# Altium integrated library ESDA6V1W5.IntLib: 1 symbol
Pins are listed as number, name and electrical type; pins without a type are passive.

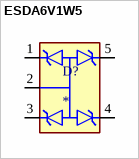
[diagram p0: symbol ESDA6V1W5]

## ESDA6V1W5
designator D?
- Clamp - Ipp Tvs Diode Surface Mount SOT-323-5; MF: STMicroelectronics; MP: ESDA6V1W5; SnapEDA_Link: https://www.snapeda.com/parts/ESDA6V1W5/STMicroelectronics/view-part/?ref=snap; Availability: In Stock; Price: None; Value: *; Check_prices: https://www.snapeda.com/parts/ESDA6V1W5/STMicroelectronics/view-part/?ref=eda; Purchase-URL: https://pricing.snapeda.com/search/part/ESDA6V1W5/?ref=eda; Package: SOT-323 STMicroelectronics
footprint SOT65P210X110-5N
pins: 1, 2, 3, 4, 5